# EAGLE library part AD688 (library 74xx)
AD688 High Precision ±10 V Reference. ±10 V tracking outputs. Kelvin connections. Low drift: 1.5 ppm/°C . Low noise: 6 μV p-p. Datasheet <http://www.analog.com/media/en/technical-documentation/data-sheets/AD688.pdf>
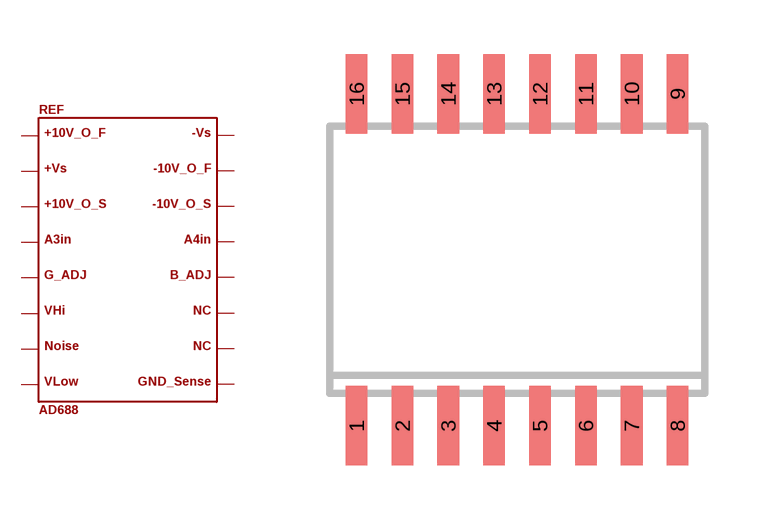
[diagram p3: symbol with the pads of SO16W; footprint SO16W]

Designator prefix REF

## AD688  [SO16W]
1  P$1
2  P$2
3  P$3
4  P$4
5  P$5
6  P$6
7  P$7
8  P$8
9  P$9
10  P$10
11  P$11
12  P$12
13  P$13
14  P$14
15  P$15
16  P$16

## Footprint SO16W (pad centres in mm)
SMALL OUTLINE INTEGRATED CIRCUIT wide body 7.5 mm/JEDEC MS-013AA
smd 0.6 x 2.2: 1 -4.445,-4.6; 2 -3.175,-4.6; 3 -1.905,-4.6; 4 -0.635,-4.6; 5 0.635,-4.6; 6 1.905,-4.6; 7 3.175,-4.6; 8 4.445,-4.6; 9 4.445,4.6; 10 3.175,4.6; 11 1.905,4.6; 12 0.635,4.6; 13 -0.635,4.6; 14 -1.905,4.6; 15 -3.175,4.6; 16 -4.445,4.6